# Altium schematic symbol library B72214P2351K101.SchLib: 1 symbol
Pins are listed as number, name and electrical type; pins without a type are passive.

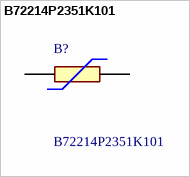
[diagram p0: symbol B72214P2351K101]

## B72214P2351K101
designator B?
Leaded Disk Varistors, Max. Operating Voltage [AC]=350Vrms, Max. Surge Current Imax(8/20us,1time)=6000A; Manufacturer_Name: TDK; Geometry.Height: 20.5mm; Manufacturer_Part_Number: B72214P2351K101; Mouser Part Number: 871-B72214P2351K101; Mouser Price/Stock: https://www.mouser.co.uk/ProductDetail/EPCOS-TDK/B72214P2351K101?qs=lGUynpphgXw50o1LqiJuSg%3D%3D; Arrow Part Number: B72214P2351K101; Arrow Price/Stock: https://www.arrow.com/en/products/b72214p2351k101/epcos-tdk; Datasheet Link: https://product.tdk.com/system/files/dam/doc/product/protection/voltage/lead-disk-varistor/data_sheet/70/db/var/siov_leaded_advanced_mp_14mm.pdf
footprint B72214P2351K101
pins: 1, 2